# Altium schematic symbol library LD39015M33R.Schlib: 1 symbol
Pins are listed as number, name and electrical type; pins without a type are passive.

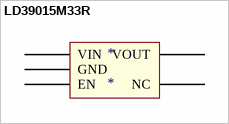
[diagram p0: symbol LD39015M33R]

## LD39015M33R
designator *
IC REG LIN 3V3 150MA
pins: 1 VIN, 2 GND, 3 EN, 4 NC, 5 VOUT